# Altium schematic symbol library MotorDrivers.SchLib: 5 symbols
Pins are listed as number, name and electrical type; pins without a type are passive.

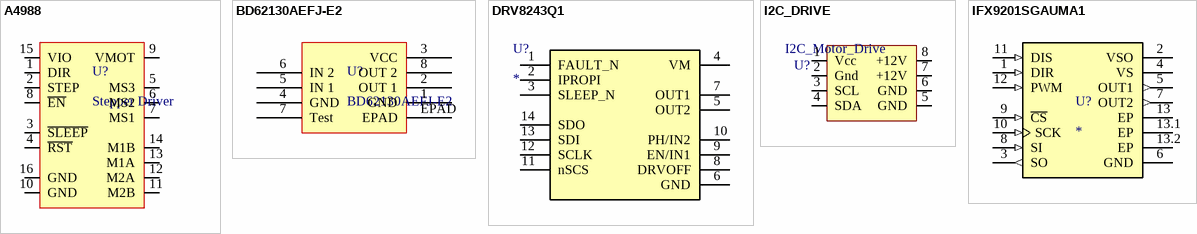
[diagram p0: symbols A4988 to IFX9201SGAUMA1]

## A4988
designator U?, comment Stepper Driver
Stepper Driver PCB; Supplier 1: Digi-Key; Package / Case: Custom; Mounted: Yes
footprint A4899 (Connector; Header; 2 Position)
pins: 1 DIR, 2 STEP, 3 ~{SLEEP}, 4 ~{RST}, 5 MS3, 6 MS2, 7 MS1, 8 ~{EN}, 9 VMOT, 10 GND, 11 M2B, 12 M2A, 13 M1A, 14 M1B, 15 VIO, 16 GND

## BD62130AEFJ-E2
designator U?
1 CHANNEL H BRIDGE Motor. 28V, 3A; Supplier 1: Digi-Key; Supplier Part Number 1: BD62130AEFJ-E2CT-ND; Package / Case: 8-HTSOP-J; Mounted: Yes; JLCPCB Part Number: C2150562
footprint P-HSOP8
pins: 1 GND, 2 OUT 1, 3 VCC, 4 GND, 5 IN 1, 6 IN 2, 7 Test, 8 OUT 2, EPAD

## DRV8243Q1
designator U?
6-12Amps motor drive SPI; Mfr_Name: Texas Instruments; TYPE: TYPE; RefDes: RefDes; Supplier Part Number 1: DRV8243HQRXYRQ1; JLCPCB Part Number: C3040833
footprint VQFN-HR-14
footprint RXY0014A-MFG
pins: 1 FAULT_N, 2 IPROPI, 3 SLEEP_N, 4 VM (power), 5 OUT2, 6 GND (power), 7 OUT1, 8 DRVOFF, 9 EN/IN1, 10 PH/IN2, 11 nSCS, 12 SCLK, 13 SDI, 14 SDO

## I2C_DRIVE
designator U?, comment I2C_Motor_Drive
Schematic for I2C_Drive made by Emile Renaud; Precision: 1%; Watt: 0.1W; Mounted: Yes; Package / Case: Metric 1608, EIA 0603
footprint I2C_Drive_SMD (Custom E.R I2C Motor Driver)
footprint I2C_Drive_TH (Custom E.R I2C Motor Driver)
pins: 1 Vcc, 2 Gnd, 3 SCL, 4 SDA, 5 GND, 6 GND, 7 +12V, 8 +12V

## IFX9201SGAUMA1
designator U?
RDSon (typ.) < 100m? per switch | Operation Voltage 4.5V to 36 V | Logic inputs: 3.3-V and 5-V TTL/ 5-V CMOS compatible | Low standby current; MF: Infineon Technologies; MP: IFX9201SGAUMA1; Package: BSOP-12 Infineon; Check_prices: https://www.snapeda.com/parts/IFX9201SGAUMA1/Infineon+Technologies/view-part/?ref=eda; Value: *; Purchase-URL: https://pricing.snapeda.com/search/part/IFX9201SGAUMA1/?ref=eda; Availability: In Stock; SnapEDA_Link: https://www.snapeda.com/parts/IFX9201SGAUMA1/Infineon+Technologies/view-part/?ref=snap; Price: None
footprint CONV_IFX9201SGAUMA1
pins: 1 DIR (in), 2 VSO (power), 3 SO (out), 4 VS (power), 5 OUT1 (out), 6 GND (power), 7 OUT2 (out), 8 SI (in), 9 ~{CS} (in), 10 SCK (in), 11 DIS (in), 12 PWM (in), 13 EP (power), 13.1 EP (power), 13.2 EP (power)